# Altium footprint library Amphenol.PcbLib: 2 footprints
Each footprint in its own frame and in the unit in brackets; x right, y up, seen from the top. Pads: shape width x height; smd on the part's side, far side on the other; paste and mask are expansions set on the pad; w line width, h text height; cw(c..) or ccw(c..) is an arc to the next point about the centre after c.
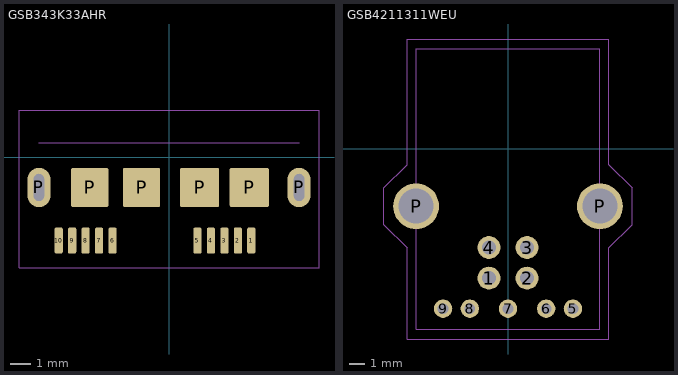
[diagram p0: the footprints below, top view; thin cyan lines are the x and y axes]

## GSB343K33AHR [mm]
pads (16):
  rrect50% 0.4x1.27 smd mask+0.051: 1(3.975,-4.013) 2(3.325,-4.013) 3(2.675,-4.013) 4(2.025,-4.013) 5(1.375,-4.013) 6(-2.725,-4.013) 7(-3.375,-4.013) 8(-4.025,-4.013) 9(-4.675,-4.013) 10(-5.325,-4.013)
  oval 1.1x1.9 hole 0.5 slot 1.3 at 90 deg: P(-6.275,-1.45) P(6.275,-1.45)
  rrect10% 1.8x1.9 smd mask+0.051: P(-3.825,-1.45) P(-1.325,-1.45)
  rrect10% 1.9x1.9 smd mask+0.051: P(1.475,-1.45) P(3.875,-1.45)
Top Component Outline:
  lines w0.025: -7.239,-5.334 -7.239,2.286 7.239,2.286 7.239,-5.334 -7.239,-5.334
Top 3D Body (Mech16):
  lines w0.025: -6.275,0.7 6.275,0.7
3D body "gsb343k33hr.stp": height 2.73, standoff -0.99, extent -6.469,-4.421 6.469,1.397

## GSB4211311WEU [mm]
pads (11):
  round 1.5 hole 0.92: 1(-1.25,-8.46) 2(1.25,-8.46) 3(1.25,-6.46) 4(-1.25,-6.46)
  round 1.2 hole 0.7: 5(4.25,-10.46) 6(2.5,-10.46) 7(0,-10.46) 8(-2.5,-10.46) 9(-4.25,-10.46)
  round 3 hole 2.3: P(-6.02,-3.75) P(6.02,-3.75)
Top Component Outline:
  lines w0.025: -8.128,-4.953 -6.604,-6.477 -6.604,-12.446 6.604,-12.446 6.604,-6.477 8.128,-4.953 8.128,-2.547 6.604,-1.023 6.604,7.196 -6.604,7.196 -6.604,-1.023 -8.128,-2.547 -8.128,-4.953
Top 3D Body (Mech16):
  lines w0.025: -6,-11.8 6,-11.8 6,6.55 -6,6.55 -6,-11.8
3D body "c-1932259-1-a1-3d.stp": height 13.2, standoff -4.36, extent -7.497,-11.8 7.497,6.55